# EAGLE library part MAX3232A (library 4534)
RS-232 Transceivers, dual charge pump
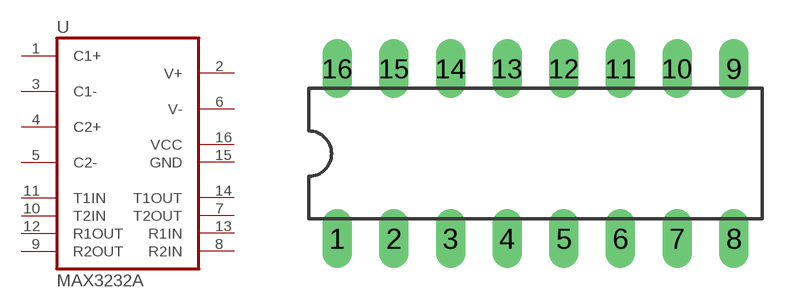
[diagram p17: symbol with the pads of MAX3232; footprint MAX3232]

Designator prefix -

## MAX3232AC  [MAX3232]
1  C1+
2  V+
3  C1-
4  C2+
5  C2-
6  V-
7  T2OUT  out
8  R2IN  in
9  R2OUT  out
10  T2IN  in
11  T1IN  in
12  R1OUT  out
13  R1IN  in
14  T1OUT  out
15  GND
16  VCC

## Footprint MAX3232 (pad centres in mm)
drill 0.813 long: 1 -8.89,-3.81; 2 -6.35,-3.81; 3 -3.81,-3.81; 4 -1.27,-3.81; 5 1.27,-3.81; 6 3.81,-3.81; 7 6.35,-3.81; 8 8.89,-3.81; 9 8.89,3.81; 10 6.35,3.81; 11 3.81,3.81; 12 1.27,3.81; 13 -1.27,3.81; 14 -3.81,3.81; 15 -6.35,3.81; 16 -8.89,3.81